# EAGLE library part CY15B116QN-40BKXI (library CY15B116QN-40BKXI)
CY15B116QN-40BKXI Source: Datasheet <https://www.infineon.com/dgdl/Infineon-CY15B116QN-40BKXIE-DataSheet-v06_00-EN.pdf?fileId=8ac78c8c7d0d8da4017d0eea4dc6734b>
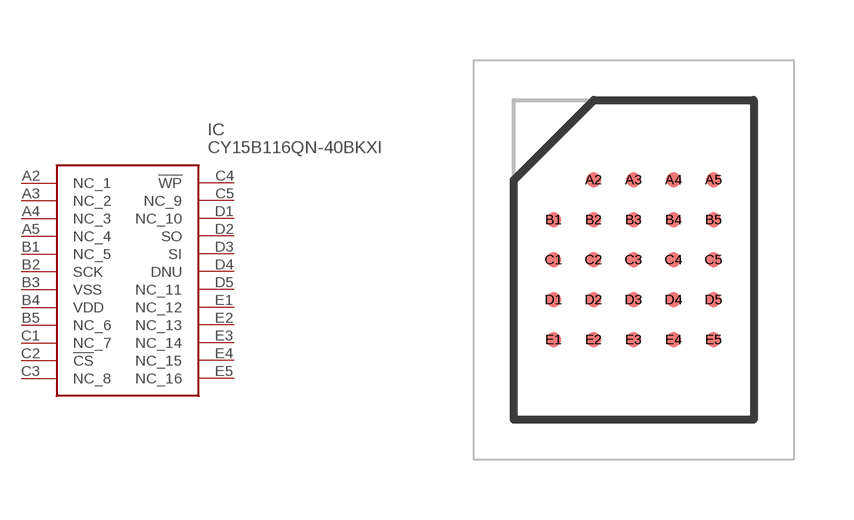
[diagram p0: symbol with the pads of BGA24C100P5X5_600X800X120; footprint BGA24C100P5X5_600X800X120]

Designator prefix IC

## CY15B116QN-40BKXI (Description: CY15B116QN-40BKXI; Height: 1.2mm; Manufacturer_Name: Infineon; Manufacturer_Part_Number: CY15B116QN-40BKXI; Mouser_Part_Number: 727-CY15B116QN40BKXI; Mouser_Price-Stock: https://www.mouser.co.uk/ProductDetail/Infineon-Technologies/CY15B116QN-40BKXI?qs=vvQtp7zwQdPnw7xP166xGg%3D%3D)  [BGA24C100P5X5_600X800X120]
A2  NC_1
A3  NC_2
A4  NC_3
A5  NC_4
B1  NC_5
B2  SCK
B3  VSS
B4  VDD
B5  NC_6
C1  NC_7
C2  !CS
C3  NC_8
C4  !WP
C5  NC_9
D1  NC_10
D2  SO
D3  SI
D4  DNU
D5  NC_11
E1  NC_12
E2  NC_13
E3  NC_14
E4  NC_15
E5  NC_16

## Footprint BGA24C100P5X5_600X800X120 (pad centres in mm)
24L FBGA 8  6  1.2 mm BK24A package outline, 001-97209
smd 0.37 x 0.37: A2 -1,2; A3 0,2; A4 1,2; A5 2,2; B1 -2,1; B2 -1,1; B3 0,1; B4 1,1; B5 2,1; C1 -2,0; C2 -1,0; C3 0,0; C4 1,0; C5 2,0; D1 -2,-1; D2 -1,-1; D3 0,-1; D4 1,-1; D5 2,-1; E1 -2,-2; E2 -1,-2; E3 0,-2; E4 1,-2; E5 2,-2